# Altium footprint library MU00525-32P768K.PcbLib: 3 footprints
Each footprint in its own frame and in the unit in brackets; x right, y up, seen from the top. Pads: shape width x height; smd on the part's side, far side on the other; paste and mask are expansions set on the pad; w line width, h text height; cw(c..) or ccw(c..) is an arc to the next point about the centre after c.
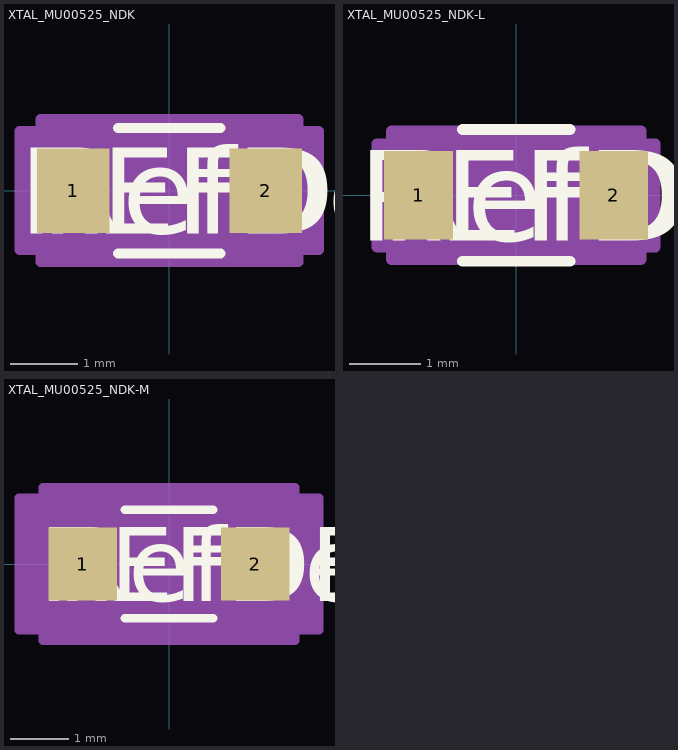
[diagram p0: the footprints below, top view; thin cyan lines are the x and y axes]

## XTAL_MU00525_NDK [mil]
pads (2):
  rect 42x49 smd paste+0 mask+0: 1(-56,0) 2(56,0)
Top Overlay:
  lines w6: -29.75,-36.5 29.75,-36.5 ; -29.75,36.5 29.75,36.5
  text "RefDes" at -75,-25 h50
  text "REFDES" at -87.5,-25 h50
Mechanical 13:
  circle w0: c-35,0 r3
  lines w0: -12,31.5 ccw(c0,31.5) 12,31.5
  lines w1: -65,-31.5 65,-31.5 65,31.5 -65,31.5 -65,-31.5
  text "RefDes2" at -87.5,-25 h50
Mechanical 15:
  region: -75,-34.5 -87,-34.5 -87,34.5 -75,34.5 -75,41.5 75,41.5 75,34.5 87,34.5 87,-34.5 75,-34.5 75,-41.5 -75,-41.5
  lines w6: -87,-34.5 -87,34.5 -75,34.5 -75,41.5 75,41.5 75,34.5 87,34.5 87,-34.5 75,-34.5 75,-41.5 -75,-41.5 -75,-34.5 -87,-34.5
3D body "XTAL_MU00525_NDK.step": height 35.12, standoff 0, extent -65,-31.5 65,31.5

## XTAL_MU00525_NDK-L [mil]
pads (2):
  rect 38x49 smd paste+0 mask+0: 1(-54,0) 2(54,0)
Top Overlay:
  lines w6: -29.75,-36.5 29.75,-36.5 ; -29.75,36.5 29.75,36.5
  text "RefDes" at -75,-25 h50
  text "REFDES" at -87.5,-25 h50
Mechanical 13:
  circle w0: c-35,0 r3
  lines w0: -12,31.5 ccw(c0,31.5) 12,31.5
  lines w1: -65,-31.5 65,-31.5 65,31.5 -65,31.5 -65,-31.5
  text "RefDes2" at -87.5,-25 h50
Mechanical 15:
  region: -69,-28.5 -77,-28.5 -77,28.5 -69,28.5 -69,35.5 69,35.5 69,28.5 77,28.5 77,-28.5 69,-28.5 69,-35.5 -69,-35.5
  lines w6: -77,-28.5 -77,28.5 -69,28.5 -69,35.5 69,35.5 69,28.5 77,28.5 77,-28.5 69,-28.5 69,-35.5 -69,-35.5 -69,-28.5 -77,-28.5
3D body "XTAL_MU00525_NDK.step": height 35.12, standoff 0, extent -65,-31.5 65,31.5

## XTAL_MU00525_NDK-M [mil]
pads (2):
  rect 46x49 smd paste+0 mask+0: 1(-58,0) 2(58,0)
Top Overlay:
  lines w6: -29.75,-36.5 29.75,-36.5 ; -29.75,36.5 29.75,36.5
  text "RefDes" at -75,-25 h50
  text "REFDES" at -87.5,-25 h50
Mechanical 13:
  circle w0: c-35,0 r3
  lines w0: -12,31.5 ccw(c0,31.5) 12,31.5
  lines w1: -65,-31.5 65,-31.5 65,31.5 -65,31.5 -65,-31.5
  text "RefDes2" at -87.5,-25 h50
Mechanical 15:
  region: -85,-44.5 -101,-44.5 -101,44.5 -85,44.5 -85,51.5 85,51.5 85,44.5 101,44.5 101,-44.5 85,-44.5 85,-51.5 -85,-51.5
  lines w6: -101,-44.5 -101,44.5 -85,44.5 -85,51.5 85,51.5 85,44.5 101,44.5 101,-44.5 85,-44.5 85,-51.5 -85,-51.5 -85,-44.5 -101,-44.5
3D body "XTAL_MU00525_NDK.step": height 35.12, standoff 0, extent -65,-31.5 65,31.5